# Altium footprint library x-JST-S6B-ZR.PcbLib: 1 footprints
Each footprint in its own frame and in the unit in brackets; x right, y up, seen from the top. Pads: shape width x height; smd on the part's side, far side on the other; paste and mask are expansions set on the pad; w line width, h text height; cw(c..) or ccw(c..) is an arc to the next point about the centre after c.
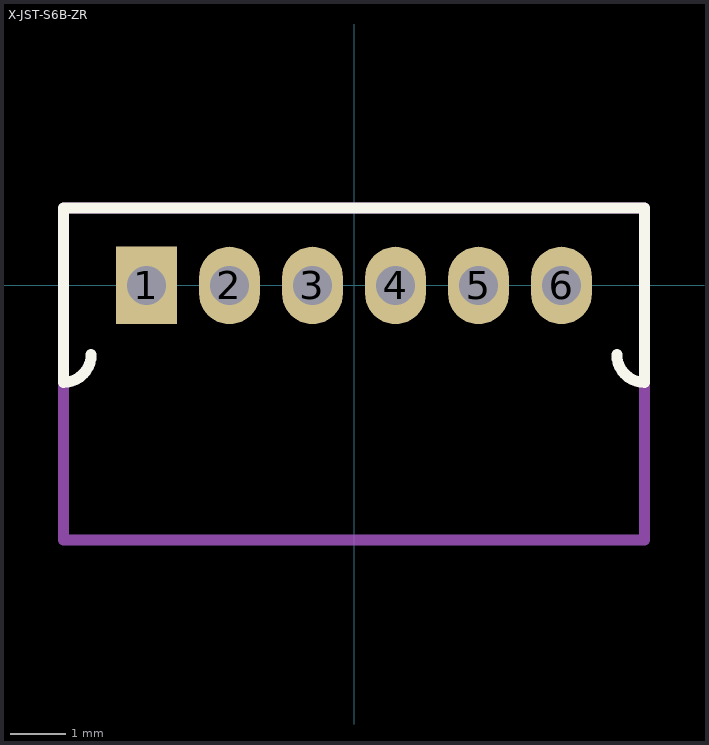
[diagram p0: the footprint, top view; thin cyan lines are the x and y axes]

## X-JST-S6B-ZR [mm] "Header, 6 pos, 1.5mm pitch, Side Entry, TH"
height 3.7
pads (6):
  rect 1.1x1.4 hole 0.7: 1(-3.75,0)
  oval 1.1x1.4 hole 0.7: 2(-2.25,0) 3(-0.75,0) 4(0.75,0) 5(2.25,0) 6(3.75,0)
Top Overlay:
  lines w0.2: -4.75,-1.25 cw(c-5.25,-1.25) -5.25,-1.75 -5.25,1.4 5.25,1.4 5.25,-1.75 cw(c5.25,-1.25) 4.75,-1.25
Bottom Overlay:
  circle w0.4: c-5.05,0.55 r0.361
  lines w0.2: -5.1,1 3.935,1 cw(c3.935,0.273) 4.662,0.273
Mechanical 13:
  lines w0.2: -5.25,-4.6 -5.25,1.4 3.75,1.4 5.25,1.4 5.25,-4.6 -5.25,-4.6
3D body: height 4.5, standoff -2.7, extent -5.25,-2.2 5.25,1.3